# EAGLE library part SWITCH-DIP-4POS (library pixhawk2)
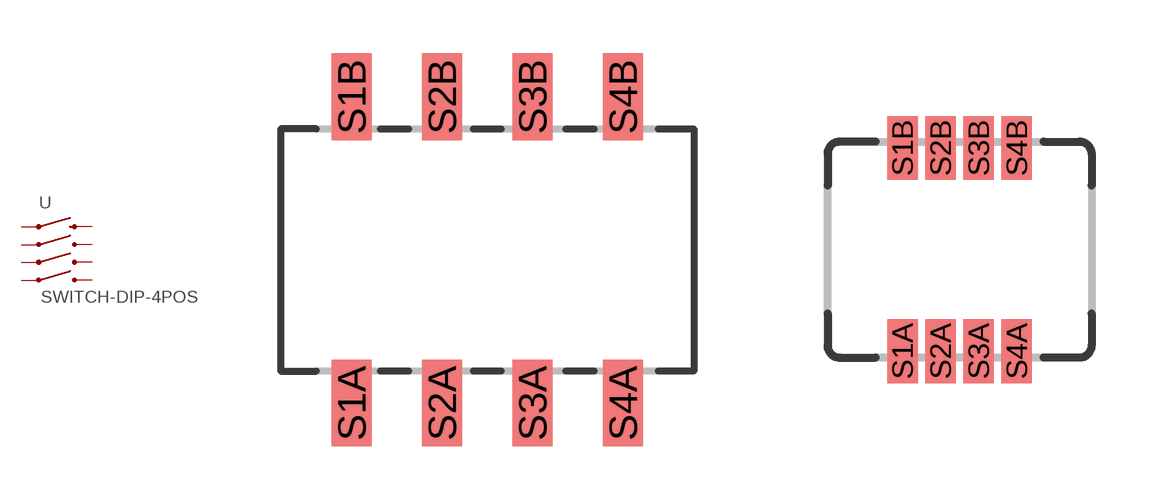
[diagram p66: symbol with the pads of CTS-219-4MST; footprints CTS-219-4MST, COPAL-CHS-04TA]

Designator prefix -

## SWITCH-DIP-4POS-219-4MST  [CTS-219-4MST]
S1A  S1A  pas
S1B  S1B  pas
S2A  S2A  pas
S2B  S2B  pas
S3A  S3A  pas
S3B  S3B  pas
S4A  S4A  pas
S4B  S4B  pas

## SWITCH-DIP-4POS-CHS-04TA  [COPAL-CHS-04TA]
Pads as for CTS-219-4MST

## Footprint CTS-219-4MST (pad centres in mm)
smd 1.13 x 2.435: S1A -3.81,-4.3; S1B -3.81,4.3; S2A -1.27,-4.3; S2B -1.27,4.3; S3A 1.27,-4.3; S3B 1.27,4.3; S4A 3.81,-4.3; S4B 3.81,4.3

## Footprint COPAL-CHS-04TA (pad centres in mm)
smd 0.76 x 1.6: S1A -1.429,-2.54; S1B -1.429,2.54; S2A -0.476,-2.54; S2B -0.476,2.54; S3A 0.476,-2.54; S3B 0.476,2.54; S4A 1.429,-2.54; S4B 1.429,2.54